# Altium schematic symbol library ULN2003ADR.Schlib: 1 symbol
Pins are listed as number, name and electrical type; pins without a type are passive.

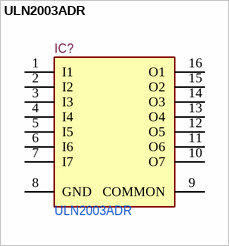
[diagram p0: symbol ULN2003ADR]

## ULN2003ADR
designator IC?
SOIC-16_150mil Darlington transistor array driver RoHS; ComponentLink1Description: LCSC - Texas Instruments ULN2003ADR; ComponentLink1URL: https://lcsc.com/product-detail/Darlington-transistor-array-driver_Texas-Instruments_ULN2003ADR_Texas-Instruments-TI-ULN2003ADR_C7512.html/?href=jlc-SMT; LCSC Part #: C7512; JLCPCB Part Type: Basic
footprint SOIC127P600X175-16N
pins: 1 I1, 2 I2, 3 I3, 4 I4, 5 I5, 6 I6, 7 I7, 8 GND, 9 COMMON, 10 O7, 11 O6, 12 O5, 13 O4, 14 O3, 15 O2, 16 O1